# Altium schematic symbol library SPBW06F-12.SchLib: 1 symbol
Pins are listed as number, name and electrical type; pins without a type are passive.

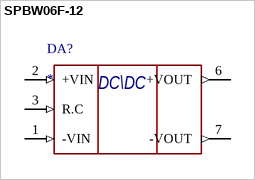
[diagram p0: symbol SPBW06F-12]

## SPBW06F-12
designator DA?
Isolated Module DC DC Converter 1 Output 12V - - - 500mA 9V - 36V Input; MF: MEAN WELL; MP: SPBW06F-12; SnapEDA_Link: https://www.snapeda.com/parts/SPBW06F-12/Mean+Well/view-part/?ref=snap; Package: SIP-8 Mean Well; Value: *; Check_prices: https://www.snapeda.com/parts/SPBW06F-12/Mean+Well/view-part/?ref=eda
footprint CONV_SPBW06F-12
pins: 1 -VIN (in), 2 +VIN (in), 3 R.C (in), 6 +VOUT (out), 7 -VOUT (out)
text: DC\DC